# Altium schematic symbol library 8.1 - NB模组.SCHLIB: 1 symbol
Pins are listed as number, name and electrical type; pins without a type are passive.

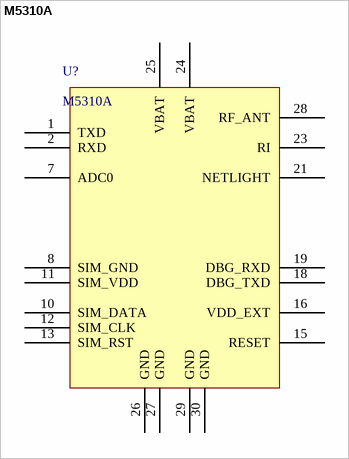
[diagram p0: symbol M5310A]

## M5310A
designator U?
footprint LCC30_M5310 (适用于移动NB模组_M5310系列)
pins: 1 TXD, 2 RXD, 3 RESERVED hidden, 4 RESERVED hidden, 5 RESERVED hidden, 6 RESERVED hidden, 7 ADC0, 8 SIM_GND, 9 RESERVED hidden, 10 SIM_DATA, 11 SIM_VDD, 12 SIM_CLK, 13 SIM_RST, 14 RESERVED hidden, 15 RESET, 16 VDD_EXT, 17 RESERVED hidden, 18 DBG_TXD, 19 DBG_RXD, 20 RESERVED hidden, 21 NETLIGHT, 22 RESERVED hidden, 23 RI, 24 VBAT, 25 VBAT, 26 GND, 27 GND, 28 RF_ANT, 29 GND, 30 GND